# Altium footprint library FYP_Connectors.PcbLib: 2 footprints
Each footprint in its own frame and in the unit in brackets; x right, y up, seen from the top. Pads: shape width x height; smd on the part's side, far side on the other; paste and mask are expansions set on the pad; w line width, h text height; cw(c..) or ccw(c..) is an arc to the next point about the centre after c.
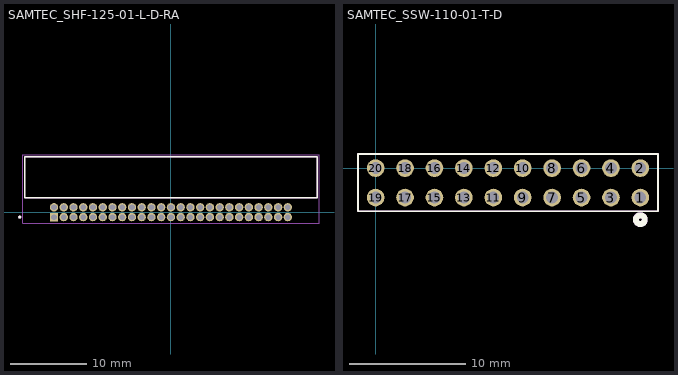
[diagram p0: the footprints below, top view; thin cyan lines are the x and y axes]

## SAMTEC_SHF-125-01-L-D-RA [mm]
pads (50):
  rect 1.09x1.09 hole 0.74 mask+0.381: 01(-15.24,-0.635)
  round 1.09 hole 0.74 mask+0.381: 02(-15.24,0.635) 03(-13.97,-0.635) 04(-13.97,0.635) 05(-12.7,-0.635) 06(-12.7,0.635) 07(-11.43,-0.635) 08(-11.43,0.635) 09(-10.16,-0.635) 10(-10.16,0.635) 11(-8.89,-0.635) 12(-8.89,0.635) 13(-7.62,-0.635) 14(-7.62,0.635) 15(-6.35,-0.635) 16(-6.35,0.635) 17(-5.08,-0.635) 18(-5.08,0.635) 19(-3.81,-0.635) 20(-3.81,0.635) 21(-2.54,-0.635) 22(-2.54,0.635) 23(-1.27,-0.635) 24(-1.27,0.635) 25(0,-0.635) 26(0,0.635) 27(1.27,-0.635) 28(1.27,0.635) 29(2.54,-0.635) 30(2.54,0.635) 31(3.81,-0.635) 32(3.81,0.635) 33(5.08,-0.635) 34(5.08,0.635) 35(6.35,-0.635) 36(6.35,0.635) 37(7.62,-0.635) 38(7.62,0.635) 39(8.89,-0.635) 40(8.89,0.635) 41(10.16,-0.635) 42(10.16,0.635) 43(11.43,-0.635) 44(11.43,0.635) 45(12.7,-0.635) 46(12.7,0.635) 47(13.97,-0.635) 48(13.97,0.635) 49(15.24,-0.635) 50(15.24,0.635)
Top Overlay:
  circle w0.2: c-19.7,-0.635 r0.1
  lines w0.2: -19.05,1.905 -19.05,7.235 19.05,7.235 19.05,1.905 -19.05,1.905
Mechanical 13:
  circle w0.2: c-19.7,-0.635 r0.1
  lines w0.1: -19.05,1.905 -19.05,7.235 ; -19.05,1.905 19.05,1.905 ; -19.05,1.905 -19.05,7.235 ; -19.05,7.235 19.05,7.235 ; -19.05,7.235 19.05,7.235 ; 19.05,1.905 19.05,7.235 ; 19.05,1.905 19.05,7.235
Mechanical 15:
  lines w0.05: -19.3,-1.43 -19.3,7.485 19.3,7.485 19.3,-1.43 -19.3,-1.43
3D body "SHF-125-01-L-D-RA.stp": height 5.59, standoff -2.16, extent -19.05,-0.838 19.05,7.239

## SAMTEC_SSW-110-01-T-D [mil]
pads (20):
  round 60 hole 40: 1(900,-100) 2(900,0) 3(800,-100) 4(800,0) 5(700,-100) 6(700,0) 7(600,-100) 8(600,0) 9(500,-100) 10(500,0) 11(400,-100) 12(400,0) 13(300,-100) 14(300,0) 15(200,-100) 16(200,0) 17(100,-100) 18(100,0) 19(0,-100) 20(0,0)
Top Overlay:
  lines w6: -60,-147 960,-147 960,48 -60,48 -60,-147
  lines w20: 885,-175 ccw(c900,-175) 915,-175 ccw(c900,-175) 885,-175
Mechanical 13:
  lines w6: -60,-147 960,-147 960,48 -60,48 -60,-147
  lines w20: 900,-190 ccw(c900,-175) 900,-160 ccw(c900,-175) 900,-190
3D body "SSW-110-01-T-D-001.stp": height 335, standoff -104, extent -60,-145 960,50